# EAGLE library part TITAN_X1_GPS (library SparkFun-GPS)
Titan X1 GPS
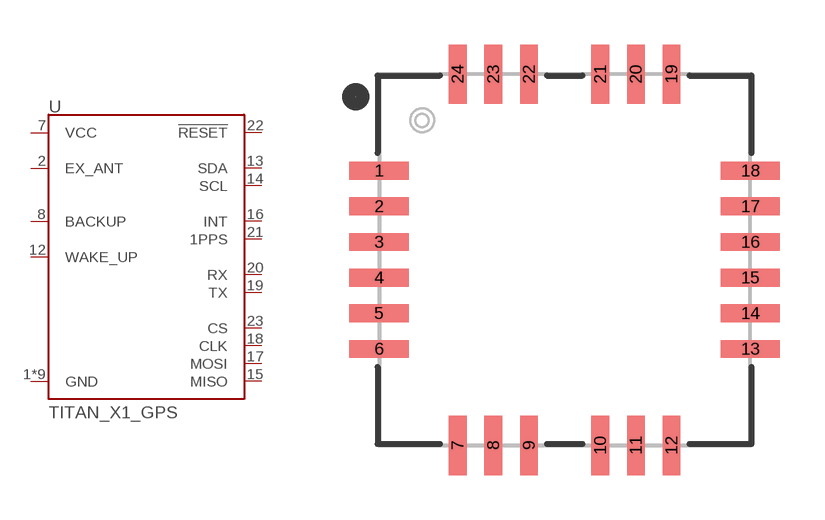
[diagram p5: symbol with the pads of TITAN_X1_GPS; footprint TITAN_X1_GPS]

Designator prefix U

## TITAN_X1_GPS (PROD_ID: GPS-13693; VALUE: Titan X1 GPS)  [TITAN_X1_GPS]
1  GND
2  EX_ANT
3  GND
4  GND
5  GND
6  GND
7  VCC
8  BACKUP
9  GND
10  GND
11  GND
12  WAKE_UP
13  SDA
14  SCL
15  MISO
16  INT
17  MOSI
18  CLK
19  TX
20  RX
21  1PPS
22  !RESET
23  CS
24  GND

## Footprint TITAN_X1_GPS (pad centres in mm)
smd 2 x 0.6: 1 -6.25,3; 2 -6.25,1.8; 3 -6.25,0.6; 4 -6.25,-0.6; 5 -6.25,-1.8; 6 -6.25,-3; 13 6.25,-3; 14 6.25,-1.8; 15 6.25,-0.6; 16 6.25,0.6; 17 6.25,1.8; 18 6.25,3
smd 0.6 x 2: 7 -3.6,-6.25; 8 -2.4,-6.25; 9 -1.2,-6.25; 10 1.2,-6.25; 11 2.4,-6.25; 12 3.6,-6.25; 19 3.6,6.25; 20 2.4,6.25; 21 1.2,6.25; 22 -1.2,6.25; 23 -2.4,6.25; 24 -3.6,6.25